# Altium footprint library PCB_LDB-U01.PcbLib: 9 footprints
Each footprint in its own frame and in the unit in brackets; x right, y up, seen from the top. Pads: shape width x height; smd on the part's side, far side on the other; paste and mask are expansions set on the pad; w line width, h text height; cw(c..) or ccw(c..) is an arc to the next point about the centre after c.
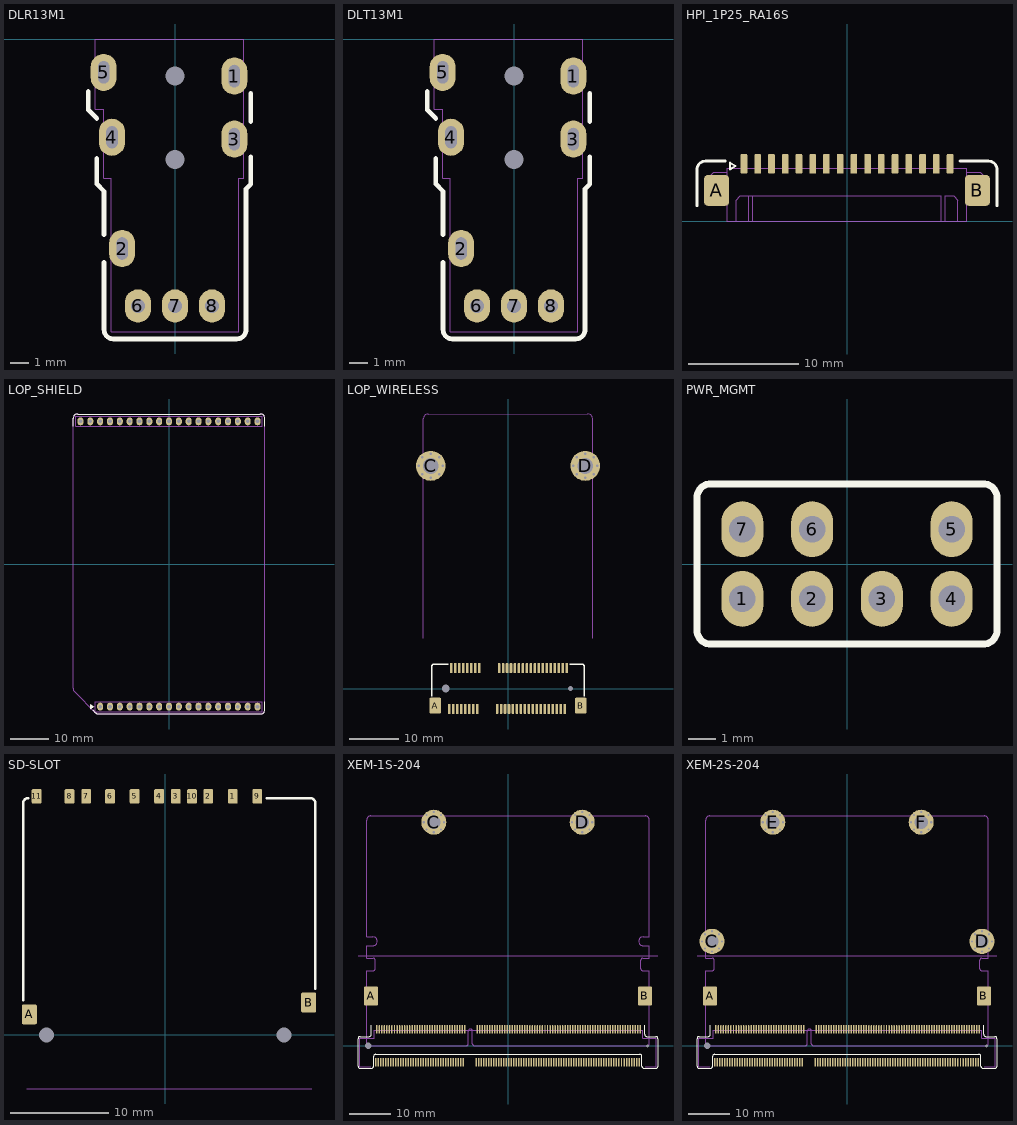
[diagram p0: the footprints below, top view; thin cyan lines are the x and y axes]

## DLR13M1 [mm]
pads (10):
  oval 1.4x2 hole 0.6 slot 1.2 at 90 deg: 1(3.2,-2) 2(-2.85,-11.3) 3(3.2,-5.4) 4(-3.4,-5.3) 5(-3.85,-1.8)
  oval 1.4x1.8 hole 0.762: 6(-2,-14.4) 7(0,-14.4) 8(2,-14.4)
  round 0.305 hole 1.016 unplated: DH(0,-6.5) UH(0,-2)
Top Overlay:
  lines w0.254: -4.681,-2.827 -4.681,-3.828 -4.223,-4.286 ; -4.223,-6.445 -4.223,-7.816 -3.831,-8.209 -3.831,-10.544 ; -3.831,-12.056 -3.831,-15.673 ccw(c-3.323,-15.673) -3.323,-16.181 3.323,-16.181 ; 4.081,-6.35 4.081,-7.832 3.831,-8.082 3.831,-15.673 cw(c3.323,-15.673) 3.323,-16.181 ; 4.081,-4.445 4.081,-2.921 ; 3.323,-16.181 3.323,-16.181
Mechanical 16:
  lines w0.025: -4.3,-3.8 -4.3,0 3.7,0 3.7,-7.5 3.45,-7.5 3.45,-15.8 -3.45,-15.8 -3.45,-7.5 -3.842,-7.5 -3.842,-3.8 -4.3,-3.8
3D body: height 4.19, standoff 0.03, extent -4.3,-15.8 3.7,0
3D body: height 4.58, standoff -0.4, extent -2.495,0 2.495,2

## DLT13M1 [mm]
pads (10):
  oval 1.4x2 hole 0.6 slot 1.2 at 90 deg: 1(3.2,-2) 2(-2.85,-11.3) 3(3.2,-5.4) 4(-3.4,-5.3) 5(-3.85,-1.8)
  oval 1.4x1.8 hole 0.762: 6(-2,-14.4) 7(0,-14.4) 8(2,-14.4)
  round 0.305 hole 1.016 unplated: DH(0,-6.5) UH(0,-2)
Top Overlay:
  lines w0.254: -4.681,-2.827 -4.681,-3.828 -4.223,-4.286 ; -4.223,-6.445 -4.223,-7.816 -3.831,-8.209 -3.831,-10.544 ; -3.831,-12.056 -3.831,-15.673 ccw(c-3.323,-15.673) -3.323,-16.181 3.323,-16.181 ; 4.081,-6.35 4.081,-7.832 3.831,-8.082 3.831,-15.673 cw(c3.323,-15.673) 3.323,-16.181 ; 4.081,-4.445 4.081,-2.921 ; 3.323,-16.181 3.323,-16.181
Mechanical 16:
  lines w0.025: -4.3,-3.8 -3.842,-3.8 -3.842,-7.5 -3.45,-7.5 -3.45,-15.8 3.45,-15.8 3.45,-7.5 3.7,-7.5 3.7,0 -4.3,0 -4.3,-3.8
3D body: height 4.58, standoff -0.4, extent -2.495,0 2.495,2
3D body: height 4.19, standoff 0.03, extent -4.3,-15.8 3.7,0

## HPI_1P25_RA16S [mil]
pads (18):
  rrect30% 24x70 smd: 1(-369.09,205) 2(-319.88,205) 3(-270.67,205) 4(-221.46,205) 5(-172.24,205) 6(-123.03,205) 7(-73.82,205) 8(-24.61,205) 9(24.61,205) 10(73.82,205) 11(123.03,205) 12(172.24,205) 13(221.46,205) 14(270.67,205) 15(319.88,205) 16(369.09,205)
  rrect30% 90x110 smd paste-10: A(-467.24,110) B(467.24,110)
Top Overlay:
  lines w8: -419.24,185 -399.24,197 -419.24,209 -419.24,185
  lines w10: -537.24,55 -537.24,185 cw(c-507.24,185) -507.24,215 -436.02,215 ; 404.24,215 507.24,215 cw(c507.24,185) 537.24,185 537.24,55
Top Solder:
  region: 380,140 310,140 310,-10 380,-10
  rectangle: -380,-10 -310,140
Mechanical 16:
  lines w1: -429.24,75 -492.24,75 -492.24,160 -477.24,175 -429.24,175 ; -397.24,0 -397.24,75 -382.24,90 337.24,90 337.24,0 ; -352.24,0 -352.24,90 ; -337.24,0 -337.24,90 ; 352.24,0 352.24,90 382.24,90 397.24,75 397.24,0 ; 429.24,75 492.24,75 492.24,160 477.24,175 429.24,175 ; -429.24,0 429.24,0 429.24,190 -429.24,190 -429.24,0
3D body: height 30, standoff 0, extent -377.09,200 -361.09,220
3D body: height 100, standoff 0, extent -377.09,184 -361.09,200
3D body: height 60, standoff 30, extent -377.09,25 -361.09,184
3D body: height 30, standoff 0, extent -327.88,200 -311.88,220
3D body: height 100, standoff 0, extent -327.88,184 -311.88,200
3D body: height 60, standoff 30, extent -327.88,25 -311.88,184
3D body: height 30, standoff 0, extent -278.67,200 -262.67,220
3D body: height 100, standoff 0, extent -278.67,184 -262.67,200
3D body: height 60, standoff 30, extent -278.67,25 -262.67,184
3D body: height 30, standoff 0, extent -229.46,200 -213.46,220
3D body: height 100, standoff 0, extent -229.46,184 -213.46,200
3D body: height 60, standoff 30, extent -229.46,25 -213.46,184
3D body: height 30, standoff 0, extent -180.24,200 -164.24,220
3D body: height 100, standoff 0, extent -180.24,184 -164.24,200
3D body: height 60, standoff 30, extent -180.24,25 -164.24,184
3D body: height 30, standoff 0, extent -131.03,200 -115.03,220
3D body: height 100, standoff 0, extent -131.03,184 -115.03,200
3D body: height 60, standoff 30, extent -131.03,25 -115.03,184
3D body: height 30, standoff 0, extent -81.82,200 -65.82,220
3D body: height 100, standoff 0, extent -81.82,184 -65.82,200
3D body: height 60, standoff 30, extent -81.82,25 -65.82,184
3D body: height 30, standoff 0, extent -32.61,200 -16.61,220
3D body: height 100, standoff 0, extent -32.61,184 -16.61,200
3D body: height 60, standoff 30, extent -32.61,25 -16.61,184
3D body: height 30, standoff 0, extent 16.61,200 32.61,220
3D body: height 100, standoff 0, extent 16.61,184 32.61,200
3D body: height 60, standoff 30, extent 16.61,25 32.61,184
3D body: height 140, standoff 125, extent -429.24,75 429.24,190
3D body: height 15, standoff 0, extent -429.24,0 -172.24,190
3D body: height 100, standoff 0, extent -492.24,75 -429.24,175
3D body: height 125, standoff 15, extent -429.24,0 -172.24,190
3D body: height 105, standoff 100, extent -469.24,75 -429.24,150
3D body: height 105, standoff 100, extent 429.24,75 469.24,150
3D body: height 100, standoff 0, extent 429.24,75 492.24,175
3D body: height 60, standoff 30, extent 361.09,25 377.09,184
3D body: height 100, standoff 0, extent 361.09,184 377.09,200
3D body: height 30, standoff 0, extent 361.09,200 377.09,220
3D body: height 60, standoff 30, extent 311.88,25 327.88,184
3D body: height 100, standoff 0, extent 311.88,184 327.88,200
3D body: height 30, standoff 0, extent 311.88,200 327.88,220
3D body: height 60, standoff 30, extent 262.67,25 278.67,184
3D body: height 100, standoff 0, extent 262.67,184 278.67,200
3D body: height 30, standoff 0, extent 262.67,200 278.67,220
3D body: height 60, standoff 30, extent 213.46,25 229.46,184
3D body: height 100, standoff 0, extent 213.46,184 229.46,200
3D body: height 30, standoff 0, extent 213.46,200 229.46,220
3D body: height 60, standoff 30, extent 164.24,25 180.24,184
3D body: height 100, standoff 0, extent 164.24,184 180.24,200
3D body: height 30, standoff 0, extent 164.24,200 180.24,220
3D body: height 60, standoff 30, extent 115.03,25 131.03,184
3D body: height 100, standoff 0, extent 115.03,184 131.03,200
3D body: height 30, standoff 0, extent 115.03,200 131.03,220
3D body: height 60, standoff 30, extent 65.82,25 81.82,184
3D body: height 100, standoff 0, extent 65.82,184 81.82,200
3D body: height 30, standoff 0, extent 65.82,200 81.82,220
3D body: height 15, standoff 0, extent -172.24,0 429.24,190
3D body: height 125, standoff 15, extent -172.24,0 429.24,190

## LOP_SHIELD [mil]
pads (36):
  oval 60x80 hole 38: 1(-700,-1450) 2(-600,-1450) 3(-500,-1450) 4(-400,-1450) 5(-300,-1450) 6(-200,-1450) 7(-100,-1450) 8(0,-1450) 9(100,-1450) 10(200,-1450) 11(300,-1450) 12(400,-1450) 13(500,-1450) 14(600,-1450) 15(700,-1450) 16(800,-1450) 17(900,-1450) 18(900,1450) 19(800,1450) 20(700,1450) 21(600,1450) 22(500,1450) 23(400,1450) 24(300,1450) 25(200,1450) 26(100,1450) 27(0,1450) 28(-100,1450) 29(-200,1450) 30(-300,1450) 31(-400,1450) 32(-500,1450) 33(-600,1450) 34(-700,1450) 35(-800,1450) 36(-900,1450)
Top Overlay:
  region: -760,-1450 -800,-1425 -800,-1475
  lines w10: -975,1400 -975,1480 cw(c-930,1480) -930,1525 930,1525 cw(c930,1480) 975,1480 975,1400 ; -777.35,-1483.36 -750.36,-1510.36 ccw(c-715,-1475) -715,-1525 930,-1525 ccw(c930,-1480) 975,-1480 975,-1400
Mechanical 15:
  lines w5: -975,-1265 ccw(c-925,-1265) -960.36,-1300.36 -750.36,-1510.36 ccw(c-715,-1475) -715,-1525 925,-1525 ccw(c925,-1475) 975,-1475 975,1475 ccw(c925,1475) 925,1525 -925,1525 ccw(c-925,1475) -975,1475 -975,-1265
Mechanical 16:
  lines w1: -950,1400 -950,1500 950,1500 950,1400 -950,1400 ; -750,-1500 -750,-1400 950,-1400 950,-1500 -750,-1500
3D body: height 275.59, standoff 0, extent -730,-1480 -670,-1420
3D body: height 283.46, standoff 0, extent -750,-1500 -650,-1400
3D body: height 275.59, standoff 0, extent -630,-1480 -570,-1420
3D body: height 283.46, standoff 0, extent -650,-1500 -550,-1400
3D body: height 275.59, standoff 0, extent -530,-1480 -470,-1420
3D body: height 283.46, standoff 0, extent -550,-1500 -450,-1400
3D body: height 275.59, standoff 0, extent -430,-1480 -370,-1420
3D body: height 283.46, standoff 0, extent -450,-1500 -350,-1400
3D body: height 275.59, standoff 0, extent -330,-1480 -270,-1420
3D body: height 283.46, standoff 0, extent -350,-1500 -250,-1400
3D body: height 275.59, standoff 0, extent -230,-1480 -170,-1420
3D body: height 283.46, standoff 0, extent -250,-1500 -150,-1400
3D body: height 275.59, standoff 0, extent -130,-1480 -70,-1420
3D body: height 283.46, standoff 0, extent -150,-1500 -50,-1400
3D body: height 275.59, standoff 0, extent -30,-1480 30,-1420
3D body: height 283.46, standoff 0, extent -50,-1500 50,-1400
3D body: height 275.59, standoff 0, extent 70,-1480 130,-1420
3D body: height 283.46, standoff 0, extent 50,-1500 150,-1400
3D body: height 275.59, standoff 0, extent 170,-1480 230,-1420
3D body: height 283.46, standoff 0, extent 150,-1500 250,-1400
3D body: height 275.59, standoff 0, extent 270,-1480 330,-1420
3D body: height 283.46, standoff 0, extent 250,-1500 350,-1400
3D body: height 275.59, standoff 0, extent 370,-1480 430,-1420
3D body: height 283.46, standoff 0, extent 350,-1500 450,-1400
3D body: height 275.59, standoff 0, extent 470,-1480 530,-1420
3D body: height 283.46, standoff 0, extent 450,-1500 550,-1400
3D body: height 275.59, standoff 0, extent 570,-1480 630,-1420
3D body: height 283.46, standoff 0, extent 550,-1500 650,-1400
3D body: height 275.59, standoff 0, extent 670,-1480 730,-1420
3D body: height 283.46, standoff 0, extent 650,-1500 750,-1400
3D body: height 275.59, standoff 0, extent 770,-1480 830,-1420
3D body: height 283.46, standoff 0, extent 750,-1500 850,-1400
3D body: height 275.59, standoff 0, extent 870,-1480 930,-1420
3D body: height 283.46, standoff 0, extent 850,-1500 950,-1400
3D body: height 283.46, standoff 0, extent 850,1400 950,1500
3D body: height 275.59, standoff 0, extent 870,1420 930,1480
3D body: height 283.46, standoff 0, extent 750,1400 850,1500
3D body: height 275.59, standoff 0, extent 770,1420 830,1480
3D body: height 283.46, standoff 0, extent 650,1400 750,1500
3D body: height 275.59, standoff 0, extent 670,1420 730,1480
3D body: height 283.46, standoff 0, extent 550,1400 650,1500
3D body: height 275.59, standoff 0, extent 570,1420 630,1480
3D body: height 283.46, standoff 0, extent 450,1400 550,1500
3D body: height 275.59, standoff 0, extent 470,1420 530,1480
3D body: height 283.46, standoff 0, extent 350,1400 450,1500
3D body: height 275.59, standoff 0, extent 370,1420 430,1480
3D body: height 283.46, standoff 0, extent 250,1400 350,1500
3D body: height 275.59, standoff 0, extent 270,1420 330,1480
3D body: height 283.46, standoff 0, extent 150,1400 250,1500
3D body: height 275.59, standoff 0, extent 170,1420 230,1480
3D body: height 283.46, standoff 0, extent 50,1400 150,1500
3D body: height 275.59, standoff 0, extent 70,1420 130,1480
3D body: height 283.46, standoff 0, extent -50,1400 50,1500
3D body: height 275.59, standoff 0, extent -30,1420 30,1480
3D body: height 283.46, standoff 0, extent -150,1400 -50,1500
3D body: height 275.59, standoff 0, extent -130,1420 -70,1480
3D body: height 283.46, standoff 0, extent -250,1400 -150,1500
3D body: height 275.59, standoff 0, extent -230,1420 -170,1480
3D body: height 283.46, standoff 0, extent -350,1400 -250,1500
3D body: height 275.59, standoff 0, extent -330,1420 -270,1480
3D body: height 283.46, standoff 0, extent -450,1400 -350,1500
3D body: height 275.59, standoff 0, extent -430,1420 -370,1480
3D body: height 283.46, standoff 0, extent -550,1400 -450,1500
3D body: height 275.59, standoff 0, extent -530,1420 -470,1480
3D body: height 283.46, standoff 0, extent -650,1400 -550,1500
3D body: height 275.59, standoff 0, extent -630,1420 -570,1480
3D body: height 283.46, standoff 0, extent -750,1400 -650,1500
3D body: height 275.59, standoff 0, extent -730,1420 -670,1480
3D body: height 283.46, standoff 0, extent -850,1400 -750,1500
3D body: height 275.59, standoff 0, extent -830,1420 -770,1480
3D body: height 283.46, standoff 0, extent -950,1400 -850,1500
3D body: height 275.59, standoff 0, extent -930,1420 -870,1480

## LOP_WIRELESS [mm]
pads (58):
  rrect50% 0.508x2.032 smd mask+0.051: 1(-11.8,-4.1) 2(-11.4,4.1) 3(-11,-4.1) 4(-10.6,4.1) 5(-10.2,-4.1) 6(-9.8,4.1) 7(-9.4,-4.1) 8(-9,4.1) 9(-8.6,-4.1) 10(-8.2,4.1) 11(-7.8,-4.1) 12(-7.4,4.1) 13(-7,-4.1) 14(-6.6,4.1) 15(-6.2,-4.1) 16(-5.8,4.1) 17(-2.2,-4.1) 18(-1.8,4.1) 19(-1.4,-4.1) 20(-1,4.1) 21(-0.6,-4.1) 22(-0.2,4.1) 23(0.2,-4.1) 24(0.6,4.1) 25(1,-4.1) 26(1.4,4.1) 27(1.8,-4.1) 28(2.2,4.1) 29(2.6,-4.1) 30(3,4.1) 31(3.4,-4.1) 32(3.8,4.1) 33(4.2,-4.1) 34(4.6,4.1) 35(5,-4.1) 36(5.4,4.1) 37(5.8,-4.1) 38(6.2,4.1) 39(6.6,-4.1) 40(7,4.1) 41(7.4,-4.1) 42(7.8,4.1) 43(8.2,-4.1) 44(8.6,4.1) 45(9,-4.1) 46(9.4,4.1) 47(9.8,-4.1) 48(10.2,4.1) 49(10.6,-4.1) 50(11,4.1) 51(11.4,-4.1) 52(11.8,4.1)
  rrect20% 2.286x3.175 smd mask+0.051: A(-14.605,-3.429) B(14.605,-3.429)
  round 6 hole 3.2: C(-15.5,44.68) D(15.5,44.68)
  round 0.305 hole 1.524 unplated: LH(-12.5,0)
  round 0.305 hole 1.016 unplated: RH(12.5,0)
via 13.087,44.68 diameter 0.889 hole 0.508
via 13.794,46.386 diameter 0.889 hole 0.508
via 15.5,42.267 diameter 0.889 hole 0.508
via 13.794,42.974 diameter 0.889 hole 0.508
via 17.206,42.974 diameter 0.889 hole 0.508
via 17.206,46.386 diameter 0.889 hole 0.508
via 17.913,44.68 diameter 0.889 hole 0.508
via 15.5,47.093 diameter 0.889 hole 0.508
via -17.913,44.68 diameter 0.889 hole 0.508
via -17.206,46.386 diameter 0.889 hole 0.508
via -15.5,42.267 diameter 0.889 hole 0.508
via -17.206,42.974 diameter 0.889 hole 0.508
via -13.794,42.974 diameter 0.889 hole 0.508
via -13.794,46.386 diameter 0.889 hole 0.508
via -13.087,44.68 diameter 0.889 hole 0.508
via -15.5,47.093 diameter 0.889 hole 0.508
Top Overlay:
  lines w0.254: -15.331,-1.524 -15.331,4.381 cw(c-14.823,4.381) -14.823,4.889 -11.995,4.889 ; 12.439,4.889 14.823,4.889 cw(c14.823,4.381) 15.331,4.381 15.331,-1.524
Mechanical 15:
  lines w0.025: -17,10.08 -17,43.63 -15.5,43.63 ccw(c-15.5,44.68) -15.5,45.73 -17,45.73 -17,54.08 cw(c-16,54.08) -16,55.08 16,55.08 cw(c16,54.08) 17,54.08 17,45.73 15.5,45.73 ccw(c15.5,44.68) 15.5,43.63 17,43.63 17,10.08
3D body: height 5.23, standoff -0.62, extent -14.95,-4.572 14.95,4.508

## PWR_MGMT [mil]
pads (7):
  oval 60x80 hole 38: 1(-150,-50) 2(-50,-50) 3(50,-50) 4(150,-50) 5(150,50) 6(-50,50) 7(-150,50)
Top Overlay:
  lines w10: -215,-95 ccw(c-195,-95) -195,-115 195,-115 ; -215,-95 -215,-95 ; -215,-95 -215,95 cw(c-195,95) -195,115 ; -195,115 -195,115 ; -195,115 195,115 cw(c195,95) 215,95 ; 195,-115 ccw(c195,-95) 215,-95 215,95 ; 195,-115 195,-115 ; 215,95 215,95
3D body: height 330, standoff -100, extent -161.81,38.19 -138.19,61.81
3D body: height 330, standoff -100, extent 138.19,38.19 161.81,61.81
3D body: height 60, standoff 0, extent -200,-100 -100,0
3D body: height 60, standoff 0, extent -100,-100 0,0
3D body: height 60, standoff 0, extent 0,-100 100,0
3D body: height 60, standoff 0, extent 100,-100 200,0
3D body: height 60, standoff 0, extent -200,0 -100,100
3D body: height 60, standoff 0, extent -100,0 0,100
3D body: height 60, standoff 0, extent 0,0 100,100
3D body: height 60, standoff 0, extent 100,0 200,100
3D body: height 330, standoff -100, extent -61.81,38.19 -38.19,61.81
3D body: height 330, standoff -100, extent 138.19,-61.81 161.81,-38.19
3D body: height 330, standoff -100, extent 38.19,-61.81 61.81,-38.19
3D body: height 330, standoff -100, extent -61.81,-61.81 -38.19,-38.19
3D body: height 330, standoff -100, extent -161.81,-61.81 -138.19,-38.19

## SD-SLOT [mm]
pads (15):
  rrect30% 1x1.5 smd mask+0.051: 1(6.875,24.3) 2(4.375,24.3) 3(1.075,24.3) 4(-0.625,24.3) 5(-3.125,24.3) 6(-5.625,24.3) 7(-8.05,24.3) 8(-9.75,24.3) 9(9.375,24.3) 10(2.725,24.3) 11(-13.1,24.3)
  rrect20% 1.524x2.032 smd mask+0.051: A(-13.843,2.1) B(14.605,3.3)
  round 0.305 hole 1.524 unplated: LH(-12.1,0) RH(12.1,0)
Top Overlay:
  lines w0.254: -14.478,3.556 -14.478,23.606 cw(c-13.97,23.606) -13.97,24.114 ; 10.328,24.114 14.776,24.114 cw(c14.776,23.606) 15.284,23.606 15.284,4.718
Mechanical 16:
  lines w0.025: -14.097,-5.5 14.903,-5.5
3D body: height 2.65, standoff -0.7, extent -14.097,-5.5 14.903,24.8

## XEM-1S-204 [mil]
height 300
pads (210):
  rrect50% 14x80 smd mask+2: 1(-1246.06,-155) 2(-1234.25,155) 3(-1222.44,-155) 4(-1210.63,155) 5(-1198.82,-155) 6(-1187.01,155) 7(-1175.19,-155) 8(-1163.38,155) 9(-1151.57,-155) 10(-1139.76,155) 11(-1127.95,-155) 12(-1116.14,155) 13(-1104.33,-155) 14(-1092.52,155) 15(-1080.71,-155) 16(-1068.9,155) 17(-1057.08,-155) 18(-1045.27,155) 19(-1033.46,-155) 20(-1021.65,155) 21(-1009.84,-155) 22(-998.03,155) 23(-986.22,-155) 24(-974.41,155) 25(-962.6,-155) 26(-950.79,155) 27(-938.97,-155) 28(-927.16,155) 29(-915.35,-155) 30(-903.54,155) 31(-891.73,-155) 32(-879.92,155) 33(-868.11,-155) 34(-856.3,155) 35(-844.49,-155) 36(-832.68,155) 37(-820.86,-155) 38(-809.05,155) 39(-797.24,-155) 40(-785.43,155) 41(-773.62,-155) 42(-761.81,155) 43(-750,-155) 44(-738.19,155) 45(-726.38,-155) 46(-714.57,155) 47(-702.75,-155) 48(-690.94,155) 49(-679.13,-155) 50(-667.32,155) 51(-655.51,-155) 52(-643.7,155) 53(-631.89,-155) 54(-620.08,155) 55(-608.27,-155) 56(-596.46,155) 57(-584.64,-155) 58(-572.83,155) 59(-561.02,-155) 60(-549.21,155) 61(-537.4,-155) 62(-525.59,155) 63(-513.78,-155) 64(-501.97,155) 65(-490.16,-155) 66(-478.35,155) 67(-466.53,-155) 68(-454.72,155) 69(-442.91,-155) 70(-431.1,155) 71(-419.29,-155) 72(-407.48,155) 73(-301.18,-155) 74(-289.37,155) 75(-277.56,-155) 76(-265.75,155) 77(-253.94,-155) 78(-242.13,155) 79(-230.31,-155) 80(-218.5,155) 81(-206.69,-155) 82(-194.88,155) 83(-183.07,-155) 84(-171.26,155) 85(-159.45,-155) 86(-147.64,155) 87(-135.83,-155) 88(-124.02,155) 89(-112.2,-155) 90(-100.39,155) 91(-88.58,-155) 92(-76.77,155) 93(-64.96,-155) 94(-53.15,155) 95(-41.34,-155) 96(-29.53,155) 97(-17.72,-155) 98(-5.91,155) 99(5.91,-155) 100(17.72,155) 101(29.53,-155) 102(41.34,155) 103(53.15,-155) 104(64.96,155) 105(76.77,-155) 106(88.58,155) 107(100.39,-155) 108(112.2,155) 109(124.02,-155) 110(135.83,155) 111(147.64,-155) 112(159.45,155) 113(171.26,-155) 114(183.07,155) 115(194.88,-155) 116(206.69,155) 117(218.5,-155) 118(230.31,155) 119(242.13,-155) 120(253.94,155) 121(265.75,-155) 122(277.56,155) 123(289.37,-155) 124(301.18,155) 125(312.99,-155) 126(324.8,155) 127(336.61,-155) 128(348.42,155) 129(360.24,-155) 130(372.05,155) 131(383.86,-155) 132(395.67,155) 133(407.48,-155) 134(419.29,155) 135(431.1,-155) 136(442.91,155) 137(454.72,-155) 138(466.53,155) 139(478.35,-155) 140(490.16,155) 141(501.97,-155) 142(513.78,155) 143(525.59,-155) 144(537.4,155) 145(549.21,-155) 146(561.02,155) 147(572.83,-155) 148(584.64,155) 149(596.46,-155) 150(608.27,155) 151(620.08,-155) 152(631.89,155) 153(643.7,-155) 154(655.51,155) 155(667.32,-155) 156(679.13,155) 157(690.94,-155) 158(702.75,155) 159(714.57,-155) 160(726.38,155) 161(738.19,-155) 162(750,155) 163(761.81,-155) 164(773.62,155) 165(785.43,-155) 166(797.24,155) 167(809.05,-155) 168(820.86,155) 169(832.68,-155) 170(844.49,155) 171(856.3,-155) 172(868.11,155) 173(879.92,-155) 174(891.73,155) 175(903.54,-155) 176(915.35,155) 177(927.16,-155) 178(938.97,155) 179(950.79,-155) 180(962.6,155) 181(974.41,-155) 182(986.22,155) 183(998.03,-155) 184(1009.84,155) 185(1021.65,-155) 186(1033.46,155) 187(1045.27,-155) 188(1057.08,155) 189(1068.9,-155) 190(1080.71,155) 191(1092.52,-155) 192(1104.33,155) 193(1116.14,-155) 194(1127.95,155) 195(1139.76,-155) 196(1151.57,155) 197(1163.38,-155) 198(1175.19,155) 199(1187.01,-155) 200(1198.82,155) 201(1210.63,-155) 202(1222.44,155) 203(1234.25,-155) 204(1246.06,155)
  rrect20% 135x180 smd mask+2: A(-1290,470) B(1290,470)
  round 236.22 hole 125.98: C(-698.82,2106.3) D(698.82,2106.3)
  round 50 hole 60 unplated: LH(-1314.96,0)
  round 11.81 hole 28 unplated: RH(1314.96,0)
via 603.82,2106.3 diameter 35 hole 20
via 631.64,2173.47 diameter 35 hole 20
via 698.82,2011.3 diameter 35 hole 20
via 631.64,2039.12 diameter 35 hole 20
via 765.99,2039.12 diameter 35 hole 20
via 765.99,2173.47 diameter 35 hole 20
via 793.82,2106.3 diameter 35 hole 20
via 698.82,2201.3 diameter 35 hole 20
via -793.82,2106.3 diameter 35 hole 20
via -765.99,2173.47 diameter 35 hole 20
via -698.82,2011.3 diameter 35 hole 20
via -765.99,2039.12 diameter 35 hole 20
via -631.64,2039.12 diameter 35 hole 20
via -631.64,2173.47 diameter 35 hole 20
via -603.82,2106.3 diameter 35 hole 20
via -698.82,2201.3 diameter 35 hole 20
Top Overlay:
  lines w10: -1287,194 -1287,107.83 cw(c-1307,107.83) -1307,87.83 -1392.64,87.83 ccw(c-1392.64,67.83) -1412.64,67.83 ; 1287,194 1287,107.83 ccw(c1307,107.83) 1307,87.83 1392.64,87.83 cw(c1392.64,67.83) 1412.64,67.83 ; -1412.64,67.83 -1412.64,67.83 ; -1412.64,67.83 -1412.64,-191.85 ccw(c-1392.64,-191.85) -1392.64,-211.85 ; -1392.64,-211.85 -1392.64,-211.85 ; -1392.64,-211.85 -1286.34,-211.85 ccw(c-1286.34,-191.85) -1266.34,-191.85 -1266.34,-99.34 cw(c-1246.34,-99.34) -1246.34,-79.34 1241.34,-79.34 ; 1241.34,-79.34 cw(c1241.34,-99.34) 1261.34,-99.34 1261.34,-191.85 ccw(c1281.34,-191.85) 1281.34,-211.85 ; 1241.34,-79.34 1241.34,-79.34 ; 1281.34,-211.85 1281.34,-211.85 ; 1281.34,-211.85 1392.64,-211.85 ccw(c1392.64,-191.85) 1412.64,-191.85 1412.64,67.83 ; 1412.64,67.83 1412.64,67.83
Mechanical 15:
  lines w1: -1330.71,0 -1330.71,708 -1270.71,708 ccw(c-1270.71,728) -1250.71,728 -1250.71,807 ccw(c-1270.71,807) -1270.71,827 -1330.71,827 -1330.71,942.91 -1271.65,942.91 ccw(c-1271.65,984.25) -1271.65,1025.59 -1330.71,1025.59 -1330.71,2125.98 cw(c-1291.34,2125.98) -1291.34,2165.35 -740.16,2165.35 -740.16,2106.3 ccw(c-698.82,2106.3) -657.48,2106.3 -657.48,2165.35 657.48,2165.35 657.48,2106.3 ccw(c698.82,2106.3) 740.16,2106.3 740.16,2165.35 1291.34,2165.35 cw(c1291.34,2125.98) 1330.71,2125.98 1330.71,1025.59 1271.65,1025.59 ccw(c1271.65,984.25) 1271.65,942.91 1330.71,942.91 1330.71,827 1270.71,827 ccw(c1270.71,807) 1250.71,807 1250.71,728 ccw(c1270.71,728) 1270.71,708 1330.71,708 1330.71,19.02 ; -1330.71,19.69 ccw(c-1311.02,19.68) -1311.02,0 -393.7,0 ccw(c-393.7,19.68) -374.02,19.68 -374.02,137.8 cw(c-354.33,137.8) -334.65,137.8 -334.65,19.68 ccw(c-314.96,19.68) -314.96,0 1311.02,0 ccw(c1311.02,19.68) 1330.71,19.68
Mechanical 16:
  lines w1: -1409.45,848.03 1409.45,848.03 ; -1291.34,-196.85 -1397.64,-196.85 -1397.64,72.83 -1257.87,72.83 -1257.87,145.67 1269.68,145.67 1269.68,72.83 1397.64,72.83 1397.64,-196.85 1291.34,-196.85
3D body: height 214.57, standoff -27.56, extent -1409.45,-196.85 1409.45,848.03
3D body: height 121, standoff 1, extent -798.82,2006.3 -599.61,2205.9
3D body: height 121, standoff 1, extent 598.82,2006.3 798.03,2205.9

## XEM-2S-204 [mil]
height 300
pads (212):
  rrect50% 14x80 smd mask+2: 1(-1246.06,-155) 2(-1234.25,155) 3(-1222.44,-155) 4(-1210.63,155) 5(-1198.82,-155) 6(-1187.01,155) 7(-1175.19,-155) 8(-1163.38,155) 9(-1151.57,-155) 10(-1139.76,155) 11(-1127.95,-155) 12(-1116.14,155) 13(-1104.33,-155) 14(-1092.52,155) 15(-1080.71,-155) 16(-1068.9,155) 17(-1057.08,-155) 18(-1045.27,155) 19(-1033.46,-155) 20(-1021.65,155) 21(-1009.84,-155) 22(-998.03,155) 23(-986.22,-155) 24(-974.41,155) 25(-962.6,-155) 26(-950.79,155) 27(-938.97,-155) 28(-927.16,155) 29(-915.35,-155) 30(-903.54,155) 31(-891.73,-155) 32(-879.92,155) 33(-868.11,-155) 34(-856.3,155) 35(-844.49,-155) 36(-832.68,155) 37(-820.86,-155) 38(-809.05,155) 39(-797.24,-155) 40(-785.43,155) 41(-773.62,-155) 42(-761.81,155) 43(-750,-155) 44(-738.19,155) 45(-726.38,-155) 46(-714.57,155) 47(-702.75,-155) 48(-690.94,155) 49(-679.13,-155) 50(-667.32,155) 51(-655.51,-155) 52(-643.7,155) 53(-631.89,-155) 54(-620.08,155) 55(-608.27,-155) 56(-596.46,155) 57(-584.64,-155) 58(-572.83,155) 59(-561.02,-155) 60(-549.21,155) 61(-537.4,-155) 62(-525.59,155) 63(-513.78,-155) 64(-501.97,155) 65(-490.16,-155) 66(-478.35,155) 67(-466.53,-155) 68(-454.72,155) 69(-442.91,-155) 70(-431.1,155) 71(-419.29,-155) 72(-407.48,155) 73(-301.18,-155) 74(-289.37,155) 75(-277.56,-155) 76(-265.75,155) 77(-253.94,-155) 78(-242.13,155) 79(-230.31,-155) 80(-218.5,155) 81(-206.69,-155) 82(-194.88,155) 83(-183.07,-155) 84(-171.26,155) 85(-159.45,-155) 86(-147.64,155) 87(-135.83,-155) 88(-124.02,155) 89(-112.2,-155) 90(-100.39,155) 91(-88.58,-155) 92(-76.77,155) 93(-64.96,-155) 94(-53.15,155) 95(-41.34,-155) 96(-29.53,155) 97(-17.72,-155) 98(-5.91,155) 99(5.91,-155) 100(17.72,155) 101(29.53,-155) 102(41.34,155) 103(53.15,-155) 104(64.96,155) 105(76.77,-155) 106(88.58,155) 107(100.39,-155) 108(112.2,155) 109(124.02,-155) 110(135.83,155) 111(147.64,-155) 112(159.45,155) 113(171.26,-155) 114(183.07,155) 115(194.88,-155) 116(206.69,155) 117(218.5,-155) 118(230.31,155) 119(242.13,-155) 120(253.94,155) 121(265.75,-155) 122(277.56,155) 123(289.37,-155) 124(301.18,155) 125(312.99,-155) 126(324.8,155) 127(336.61,-155) 128(348.42,155) 129(360.24,-155) 130(372.05,155) 131(383.86,-155) 132(395.67,155) 133(407.48,-155) 134(419.29,155) 135(431.1,-155) 136(442.91,155) 137(454.72,-155) 138(466.53,155) 139(478.35,-155) 140(490.16,155) 141(501.97,-155) 142(513.78,155) 143(525.59,-155) 144(537.4,155) 145(549.21,-155) 146(561.02,155) 147(572.83,-155) 148(584.64,155) 149(596.46,-155) 150(608.27,155) 151(620.08,-155) 152(631.89,155) 153(643.7,-155) 154(655.51,155) 155(667.32,-155) 156(679.13,155) 157(690.94,-155) 158(702.75,155) 159(714.57,-155) 160(726.38,155) 161(738.19,-155) 162(750,155) 163(761.81,-155) 164(773.62,155) 165(785.43,-155) 166(797.24,155) 167(809.05,-155) 168(820.86,155) 169(832.68,-155) 170(844.49,155) 171(856.3,-155) 172(868.11,155) 173(879.92,-155) 174(891.73,155) 175(903.54,-155) 176(915.35,155) 177(927.16,-155) 178(938.97,155) 179(950.79,-155) 180(962.6,155) 181(974.41,-155) 182(986.22,155) 183(998.03,-155) 184(1009.84,155) 185(1021.65,-155) 186(1033.46,155) 187(1045.27,-155) 188(1057.08,155) 189(1068.9,-155) 190(1080.71,155) 191(1092.52,-155) 192(1104.33,155) 193(1116.14,-155) 194(1127.95,155) 195(1139.76,-155) 196(1151.57,155) 197(1163.38,-155) 198(1175.19,155) 199(1187.01,-155) 200(1198.82,155) 201(1210.63,-155) 202(1222.44,155) 203(1234.25,-155) 204(1246.06,155)
  rrect20% 135x180 smd mask+2: A(-1290,470) B(1290,470)
  round 236.22 hole 125.98: C(-1271.65,984.25) D(1271.65,984.25) E(-698.82,2106.3) F(698.82,2106.3)
  round 50 hole 60 unplated: LH(-1314.96,0)
  round 11.81 hole 28 unplated: RH(1314.96,0)
via -1271.65,1079.25 diameter 35 hole 20
via -1176.65,984.25 diameter 35 hole 20
via -1204.48,1051.43 diameter 35 hole 20
via -1204.48,917.08 diameter 35 hole 20
via -1338.83,917.08 diameter 35 hole 20
via -1271.65,889.25 diameter 35 hole 20
via -1338.83,1051.43 diameter 35 hole 20
via -1366.65,984.25 diameter 35 hole 20
via 1271.65,1079.25 diameter 35 hole 20
via 1366.65,984.25 diameter 35 hole 20
via 1338.83,1051.43 diameter 35 hole 20
via 1338.83,917.08 diameter 35 hole 20
via 1204.48,917.08 diameter 35 hole 20
via 1271.65,889.25 diameter 35 hole 20
via 1204.48,1051.43 diameter 35 hole 20
via 1176.65,984.25 diameter 35 hole 20
via 698.82,2201.3 diameter 35 hole 20
via 793.82,2106.3 diameter 35 hole 20
via 765.99,2173.47 diameter 35 hole 20
via 765.99,2039.12 diameter 35 hole 20
via 631.64,2039.12 diameter 35 hole 20
via 698.82,2011.3 diameter 35 hole 20
via 631.64,2173.47 diameter 35 hole 20
via 603.82,2106.3 diameter 35 hole 20
via -698.82,2201.3 diameter 35 hole 20
via -603.82,2106.3 diameter 35 hole 20
via -631.64,2173.47 diameter 35 hole 20
via -631.64,2039.12 diameter 35 hole 20
via -765.99,2039.12 diameter 35 hole 20
via -698.82,2011.3 diameter 35 hole 20
via -765.99,2173.47 diameter 35 hole 20
via -793.82,2106.3 diameter 35 hole 20
Top Overlay:
  lines w10: -1287,194 -1287,107.83 cw(c-1307,107.83) -1307,87.83 -1392.64,87.83 ccw(c-1392.64,67.83) -1412.64,67.83 ; 1287,194 1287,107.83 ccw(c1307,107.83) 1307,87.83 1392.64,87.83 cw(c1392.64,67.83) 1412.64,67.83 ; -1412.64,67.83 -1412.64,67.83 ; -1412.64,67.83 -1412.64,-191.85 ccw(c-1392.64,-191.85) -1392.64,-211.85 ; -1392.64,-211.85 -1392.64,-211.85 ; -1392.64,-211.85 -1286.34,-211.85 ccw(c-1286.34,-191.85) -1266.34,-191.85 -1266.34,-99.34 cw(c-1246.34,-99.34) -1246.34,-79.34 1241.34,-79.34 ; 1241.34,-79.34 cw(c1241.34,-99.34) 1261.34,-99.34 1261.34,-191.85 ccw(c1281.34,-191.85) 1281.34,-211.85 ; 1241.34,-79.34 1241.34,-79.34 ; 1281.34,-211.85 1281.34,-211.85 ; 1281.34,-211.85 1392.64,-211.85 ccw(c1392.64,-191.85) 1412.64,-191.85 1412.64,67.83 ; 1412.64,67.83 1412.64,67.83
Mechanical 15:
  lines w1: -1330.71,0 -1330.71,708 -1270.71,708 ccw(c-1270.71,728) -1250.71,728 -1250.71,807 ccw(c-1270.71,807) -1270.71,827 -1330.71,827 -1330.71,942.91 -1271.65,942.91 ccw(c-1271.65,984.25) -1271.65,1025.59 -1330.71,1025.59 -1330.71,2125.98 cw(c-1291.34,2125.98) -1291.34,2165.35 -740.16,2165.35 -740.16,2106.3 ccw(c-698.82,2106.3) -657.48,2106.3 -657.48,2165.35 657.48,2165.35 657.48,2106.3 ccw(c698.82,2106.3) 740.16,2106.3 740.16,2165.35 1291.34,2165.35 cw(c1291.34,2125.98) 1330.71,2125.98 1330.71,1025.59 1271.65,1025.59 ccw(c1271.65,984.25) 1271.65,942.91 1330.71,942.91 1330.71,827 1270.71,827 ccw(c1270.71,807) 1250.71,807 1250.71,728 ccw(c1270.71,728) 1270.71,708 1330.71,708 1330.71,19.02 ; -1330.71,19.69 ccw(c-1311.02,19.68) -1311.02,0 -393.7,0 ccw(c-393.7,19.68) -374.02,19.68 -374.02,137.8 cw(c-354.33,137.8) -334.65,137.8 -334.65,19.68 ccw(c-314.96,19.68) -314.96,0 1311.02,0 ccw(c1311.02,19.68) 1330.71,19.68
Mechanical 16:
  lines w1: -1409.45,848.03 1409.45,848.03 ; -1291.34,-196.85 -1397.64,-196.85 -1397.64,72.83 -1257.87,72.83 -1257.87,145.67 1269.68,145.67 1269.68,72.83 1397.64,72.83 1397.64,-196.85 1291.34,-196.85
3D body: height 214.57, standoff -27.56, extent -1409.45,-196.85 1409.45,848.03
3D body: height 121, standoff 1, extent -1371.65,884.25 -1172.44,1083.86
3D body: height 121, standoff 1, extent -798.82,2006.3 -599.61,2205.9
3D body: height 121, standoff 1, extent 598.82,2006.3 798.03,2205.9
3D body: height 121, standoff 1, extent 1171.65,884.25 1370.87,1083.86